# Altium footprint library pqm_v2_lib_footprints.PcbLib: 44 footprints (part 2 of 3)
Each footprint in its own frame and in the unit in brackets; x right, y up, seen from the top. Pads: shape width x height; smd on the part's side, far side on the other; paste and mask are expansions set on the pad; w line width, h text height; cw(c..) or ccw(c..) is an arc to the next point about the centre after c.
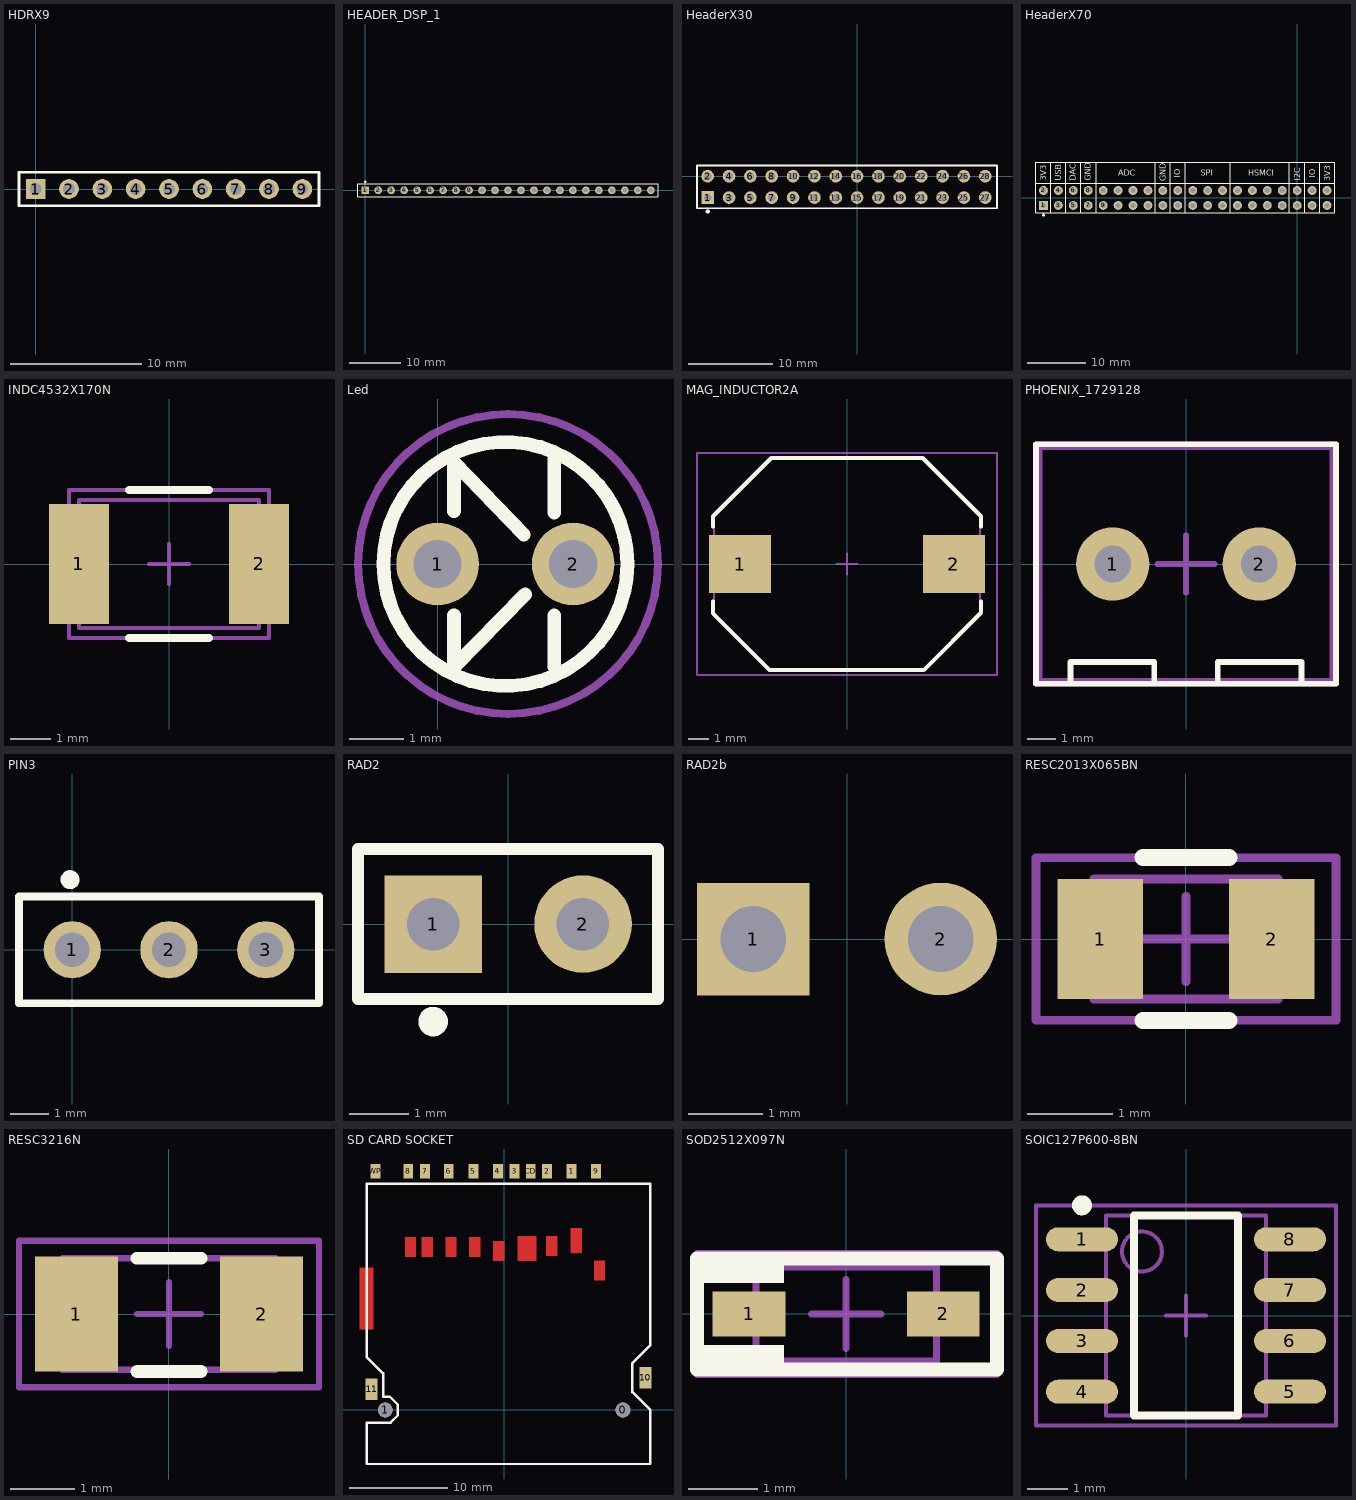
[diagram p1: the footprints below, top view; thin cyan lines are the x and y axes]

## HDRX9 [mm]
pads (9):
  rect 1.5x1.5 hole 0.9: 1(0,0)
  round 1.5 hole 0.9: 2(2.54,0) 3(5.08,0) 4(7.62,0) 5(10.16,0) 6(12.7,0) 7(15.24,0) 8(17.78,0) 9(20.32,0)
Top Overlay:
  lines w0.2: -1.27,-1.27 21.59,-1.27 21.59,1.27 -1.27,1.27 -1.27,-1.27

## HEADER_DSP_1 [mm]
pads (23):
  rect 1.5x1.5 hole 0.9: 1(0,0)
  oval 1.51x1.5 hole 0.9: 2(2.54,0) 4(7.62,0) 6(12.7,0) 8(17.78,0) 10(22.86,0) 12(27.94,0) 14(33.02,0) 16(38.1,0) 18(43.18,0) 20(48.26,0) 22(53.34,0) 23(55.88,0)
  round 1.5 hole 0.9: 3(5.08,0) 5(10.16,0) 7(15.24,0) 9(20.32,0) 11(25.4,0) 13(30.48,0) 15(35.56,0) 17(40.64,0) 19(45.72,0) 21(50.8,0)
Top Overlay:
  circle w0.25: c0.002,1.651 r0.125
  lines w0.2: 57.277,-1.27 -1.4,-1.27 -1.4,1.27 57.277,1.27 ; 57.28,-1.27 57.28,1.27

## HeaderX30 [mm]
pads (28):
  rect 1.5x1.5 hole 0.9: 1(-17.78,-2.54)
  round 1.5 hole 0.9: 2(-17.78,0) 3(-15.24,-2.54) 4(-15.24,0) 5(-12.7,-2.54) 6(-12.7,0) 7(-10.16,-2.54) 8(-10.16,0) 9(-7.62,-2.54) 10(-7.62,0) 11(-5.08,-2.54) 12(-5.08,0) 13(-2.54,-2.54) 14(-2.54,0) 15(0,-2.54) 16(0,0) 17(2.54,-2.54) 18(2.54,0) 19(5.08,-2.54) 20(5.08,0) 21(7.62,-2.54) 22(7.62,0) 23(10.16,-2.54) 24(10.16,0) 25(12.7,-2.54) 26(12.7,0) 27(15.24,-2.54) 28(15.24,0)
Top Overlay:
  circle w0.25: c-17.778,-4.191 r0.125
  lines w0.2: -19.05,-3.81 -19.05,1.27 16.637,1.27 16.637,-3.81 -19.05,-3.81

## HeaderX70 [mm]
pads (40):
  rect 1.5x1.5 hole 0.9: 1(-43.18,-1.27)
  round 1.5 hole 0.9: 2(-43.18,1.27) 3(-40.64,-1.27) 4(-40.64,1.27) 5(-38.1,-1.27) 6(-38.1,1.27) 7(-35.56,-1.27) 8(-35.56,1.27) 9(-33.02,-1.27) 10(-33.02,1.27) 11(-30.48,-1.27) 12(-30.48,1.27) 13(-27.94,-1.27) 14(-27.94,1.27) 15(-25.4,-1.27) 16(-25.4,1.27) 17(-22.86,-1.27) 18(-22.86,1.27) 19(-20.32,-1.27) 20(-20.32,1.27) 21(-17.78,-1.27) 22(-17.78,1.27) 23(-15.24,-1.27) 24(-15.24,1.27) 25(-12.7,-1.27) 26(-12.7,1.27) 27(-10.16,-1.27) 28(-10.16,1.27) 29(-7.62,-1.27) 30(-7.62,1.27) 31(-5.08,-1.27) 32(-5.08,1.27) 33(-2.54,-1.27) 34(-2.54,1.27) 35(0,-1.27) 36(0,1.27) 37(2.54,-1.27) 38(2.54,1.27) 39(5.08,-1.27) 40(5.08,1.27)
Top Overlay:
  circle w0.25: c-43.178,-2.921 r0.125
  lines w0.2: -41.91,-2.54 -41.91,6.096 ; -39.37,-2.54 -39.37,6.096 ; -36.83,-2.54 -36.83,6.096 ; -34.227,-2.54 -34.227,6.096 ; -24.13,-2.54 -24.13,6.096 ; -21.59,-2.54 -21.59,6.096 ; -19.05,-2.54 -19.05,6.096 ; -11.367,-2.54 -11.367,6.096 ; -1.333,-2.54 -1.333,6.096 ; 1.27,-2.54 1.27,6.096 ; 3.81,-2.54 3.81,6.096 ; 6.35,2.54 -44.45,2.54 ; -44.45,2.54 -44.45,6.096 6.35,6.096 6.35,-2.54 -44.45,-2.54 -44.45,2.54
  text "3V3" at 5.588,2.857 h1.02
  text "IO" at 3.048,3.429 h1.02
  text "I2C" at 0.508,2.921 h1.02
  text "HSMCI" at -8.319,3.81 h1.02
  text "SPI" at -16.447,3.746 h1.02
  text "IO" at -19.939,3.429 h1.02
  text "GND" at -22.352,2.857 h1.02
  text "ADC" at -30.48,3.81 h1.02
  text "GND" at -35.115,2.921 h1.02
  text "DAC" at -37.655,2.921 h1.02
  text "USB" at -40.195,2.921 h1.02
  text "3V3" at -42.735,2.921 h1.02

## INDC4532X170N [mm] "Chip Inductor, Body 4.5x3.2mm, IPC Medium Density"
height 1.7
pads (2):
  rect 1.5x3 smd: 1(-2.25,0) 2(2.25,0)
Top Overlay:
  lines w0.2: -1,-1.85 1,-1.85 ; -1,1.85 1,1.85
Mechanical 13:
  lines w0.1: -2.25,-1.6 -2.25,1.6 2.25,1.6 2.25,-1.6 -2.25,-1.6
Mechanical 15:
  lines w0.1: -0.5,0 0.5,0 ; 0,-0.5 0,0.5 ; -2.5,-1.85 -2.5,1.85 2.5,1.85 2.5,-1.85 -2.5,-1.85
3D body: height -0.43, standoff -2.18, extent -2.25,-1.6 2.25,1.6

## Led [mil]
pads (2):
  round 60 hole 35: 1(0,0) 2(98.43,0)
Top Overlay:
  circle w10: c49.21,0 r88.58
  lines w10: 11.81,-37.4 11.81,-74.8 63.54,-22.19 ; 11.81,38.39 11.81,73.82 62.6,21.28 ; 84.65,-74.8 84.65,-37.4 ; 84.65,37.4 84.65,75.79
Mechanical 15:
  circle w5.91: c51.09,0 r108.91
3D body: height 237.04, standoff -77.93, extent -15.51,-64.9 114.42,64.58

## MAG_INDUCTOR2A [mm] "Precision Wire Wound Inductor, 2-Leads, Body 12,7x10,0mm, IPC Medium Density"
height 5.2
pads (2):
  rect 3x2.8 smd: 1(-5.15,0) 2(5.15,0)
Top Overlay:
  lines w0.2: -6.45,-1.8 -6.45,-2.375 -3.725,-5.1 3.7,-5.1 6.45,-2.35 6.45,-1.8 ; -6.45,1.8 -6.45,2.3 -3.65,5.1 3.65,5.1 6.45,2.3 6.45,1.8
Mechanical 13:
  lines w0.1: -6.4,-2.425 -6.4,2.35 -3.65,5.1 3.675,5.1 6.4,2.375 6.4,-2.4 3.7,-5.1 -3.725,-5.1 -6.4,-2.425
Mechanical 15:
  lines w0.1: -0.5,0 0.5,0 ; 0,-0.5 0,0.5 ; -7.225,-5.35 -7.225,5.35 7.225,5.35 7.225,-5.35 -7.225,-5.35
3D body: height 5.2, standoff 0, extent -6.477,-5 6.223,5

## PHOENIX_1729128 [mm] "Terminal Block 5.08mm pitch, vertical, 2 positions pcb mounting, Phoenix Contact"
height 10
pads (2):
  round 2.54 hole 1.27: 1(-2.54,0) 2(2.54,0)
Top Overlay:
  lines w0.2: -4,-4.15 -4,-3.4 -1.1,-3.4 -1.1,-4.15 ; 1.1,-4.15 1.1,-3.4 4,-3.4 4,-4.15 ; 5.15,-4.15 -5.2,-4.15 -5.2,4.15 5.15,4.15 ; 5.2,-4.15 5.2,4.15
Mechanical 13:
  lines w0.2: -5.08,-4.05 -5.08,4.05 5.08,4.05 5.08,-4.05 -5.08,-4.05
Mechanical 15:
  lines w0.2: -1,0 1,0 ; 0,-1 0,1 ; 5.15,-4.15 -5.2,-4.15 -5.2,4.15 5.15,4.15 ; 5.2,-4.15 5.2,4.15
3D body: height 10, standoff -3.5, extent -5.65,-4.05 5.08,4.05

## PIN3 [mm]
pads (3):
  round 1.5 hole 0.9: 1(0,0) 3(5.08,0)
  oval 1.51x1.5 hole 0.9: 2(2.54,0)
Top Overlay:
  circle w0.25: c-0.062,1.841 r0.125
  lines w0.2: -1.4,-1.4 -1.4,1.4 6.48,1.4 6.48,-1.4 -1.4,-1.4

## RAD2 [mil] "Radial Cap, Thru-Hole; 2 Leads; 0.1 in Pin Spacing"
pads (2):
  rect 65x65 hole 35: 1(-50,0)
  round 65 hole 35: 2(50,0)
Top Overlay:
  circle w9.84: c-49.92,-65 r4.92
  lines w7.87: -100,-50 100,-50 100,50 -100,50 -100,-50
3D body: height 330, standoff -125, extent -97.5,-51.49 102.5,46.5

## RAD2b [mil] "Radial Cap, Thru-Hole; 2 Leads; 0.1 in Pin Spacing"
pads (2):
  rect 60x60 hole 35: 1(-50,0)
  round 60 hole 35: 2(50,0)

## RESC2013X065BN [mm] "Chip Resistor, 0805, Body 2.0x1.3mm, Pads modified for 1mm spacing."
height 0.65
pads (2):
  rect 1x1.4 smd: 1(-1,0) 2(1,0)
Top Overlay:
  lines w0.2: -0.5,-0.95 0.5,-0.95 ; -0.5,0.95 0.5,0.95
Mechanical 13:
  lines w0.1: -1.075,-0.7 -1.075,0.7 1.075,0.7 1.075,-0.7 -1.075,-0.7
Mechanical 15:
  lines w0.1: -0.5,0 0.5,0 ; 0,-0.5 0,0.5 ; -1.75,-0.95 -1.75,0.95 1.75,0.95 1.75,-0.95 -1.75,-0.95
3D body: height 0.45, standoff 0, extent -1,-0.625 1,0.625

## RESC3216N [mm] "Chip Resistor, Body 3.2x1.6mm, IPC Medium Density"
height 0.71
pads (2):
  rect 1.3x1.8 smd: 1(-1.45,0) 2(1.45,0)
Top Overlay:
  lines w0.2: -0.5,-0.9 0.5,-0.9 ; -0.5,0.875 0.5,0.875
Mechanical 13:
  lines w0.1: -1.675,-0.875 1.675,-0.875 1.675,0.875 -1.675,0.875 -1.675,-0.875
Mechanical 15:
  lines w0.1: -0.5,0 0.5,0 ; 0,-0.5 0,0.5 ; -2.35,-1.15 2.35,-1.15 2.35,1.15 -2.35,1.15 -2.35,-1.15
3D body: height 0.55, standoff 0, extent -1.6,-0.8 1.6,0.8

## SD CARD SOCKET [mm]
pads (15):
  round 1.5 hole 1.5: 0(12.1,0) 1(-12.1,0)
  rect 1x1.5 smd: 1(6.875,24.3) 2(4.375,24.3) 3(1.075,24.3) 4(-0.625,24.3) 5(-3.125,24.3) 6(-5.625,24.3) 7(-8.05,24.3) 8(-9.75,24.3) 9(9.375,24.3) CD(2.725,24.3) WP(-13.1,24.3)
  rect 1.2x2.2 smd: 10(14.4,3.3) 11(-13.5,2.1)
Top Layer:
  pour cut-out: -14.7,8.2 -13.3,8.2 -13.3,14.5 -14.7,14.5
  pour cut-out: 9.175,13.2 9.175,15.2 10.275,15.2 10.275,13.2
  pour cut-out: 6.8,16 6.8,18.5 7.9,18.5 7.9,16
  pour cut-out: -1.1,15.2 -1.1,17.2 0,17.2 0,15.2
  pour cut-out: 1.4,15.2 1.4,17.7 3.3,17.7 3.3,15.2
  pour cut-out: 4.3,15.7 4.3,17.7 5.4,17.7 5.4,15.7
  pour cut-out: -3.525,15.6 -3.525,17.6 -2.425,17.6 -2.425,15.6
  pour cut-out: -5.95,15.6 -5.95,17.6 -4.85,17.6 -4.85,15.6
  pour cut-out: -8.375,15.6 -8.375,17.6 -7.275,17.6 -7.275,15.6
  pour cut-out: -10.075,15.6 -10.075,17.6 -8.975,17.6 -8.975,15.6
Top Overlay:
  lines w0.254: -14,-5.5 14.9,-5.5 14.9,0 13.075,1.825 13.075,4.775 14.9,6.6 14.9,23.025 -14,23.025 -14,5.4 -12.325,3.725 -12.325,1.35 -11.625,1.35 -10.825,0.55 -10.825,-0.55 -11.55,-1.275 -14,-1.275 -14,-5.5
3D body: height 4, standoff 0, extent -14,-5.5 14.925,23.95

## SOD2512X097N [mm] "SOD-323, 2 Lead, Conforming to JEITA SC90 standard // Source: SOD-323 Package 2008, Fairchild"
height 0.97
pads (2):
  rect 1.05x0.65 smd: 1(-1.4,0) 2(1.4,0)
Top Overlay:
  region: -2.15,-0.8 -0.9,-0.8 -0.9,-0.45 -2.05,-0.45 -2.05,0.45 -0.9,0.45 -0.9,0.8 -2.15,0.8
  lines w0.2: -2.15,-0.8 2.175,-0.8 2.175,0.8 -2.15,0.8 -2.15,-0.8
Mechanical 13:
  lines w0.1: -1.3,-0.675 -1.3,0.675 1.3,0.675 1.3,-0.675 -1.3,-0.675
Mechanical 15:
  lines w0.1: -0.5,0 0.5,0 ; 0,-0.5 0,0.5 ; -2.15,-0.875 2.175,-0.875 2.175,0.875 -2.15,0.875 -2.15,-0.875
3D body: height 1.1, standoff 0, extent -1.3,-0.675 1.3,0.675

## SOIC127P600-8BN [mm] "SOIC, 8-Leads, Body 4.9x3.9mm, Pitch 1.27mm, IPC Medium Density"
height 2.59
pads (8):
  oval 1.8x0.6 smd: 1(-2.6,1.905) 2(-2.6,0.635) 3(-2.6,-0.635) 4(-2.6,-1.905) 5(2.6,-1.905) 6(2.6,-0.635) 7(2.6,0.635) 8(2.6,1.905)
Top Overlay:
  circle w0.25: c-2.6,2.755 r0.125
  lines w0.2: -1.3,-2.5 1.3,-2.5 1.3,2.5 -1.3,2.5 -1.3,-2.5
Mechanical 13:
  circle w0.1: c-1.1,1.6 r0.5
  lines w0.1: -2,-2.5 2,-2.5 2,2.5 -2,2.5 -2,-2.5
Mechanical 15:
  lines w0.1: -0.5,0 0.5,0 ; 0,-0.5 0,0.5 ; -3.75,-2.75 3.75,-2.75 3.75,2.75 -3.75,2.75 -3.75,-2.75
3D body: height 1.75, standoff 0, extent -3,-2.45 3,2.45